# EAGLE library part TEENSY_3.5_BAJA (library Teensy)
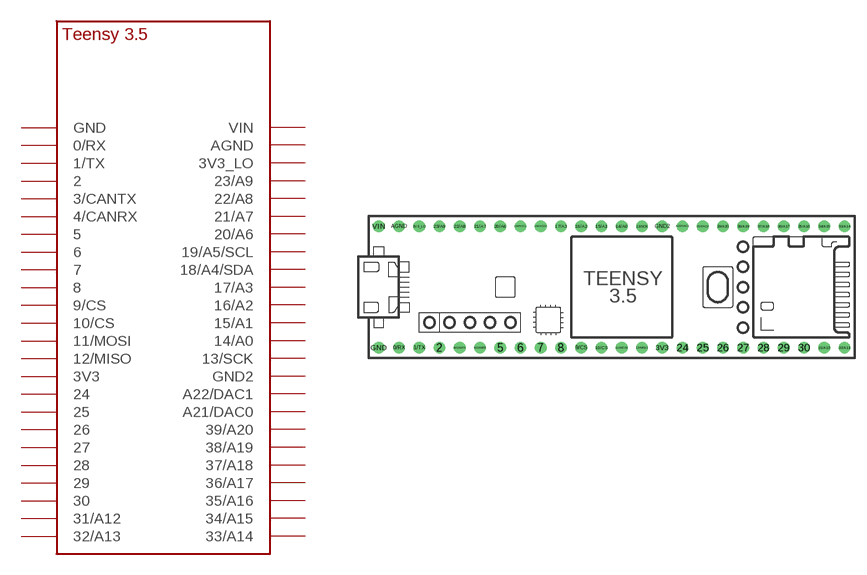
[diagram p1: symbol with the pads of TEENSY_3.5_BAJA; footprint TEENSY_3.5_BAJA]

Designator prefix -

## TEENSY_3.5_BAJA  [TEENSY_3.5_BAJA]
0/RX  0/RX
1/TX  1/TX
2  2
3/CANTX  3/CANTX
3V3  3V3
3V3_LO  3V3_LO
4/CANRX  4/CANRX
5  5
6  6
7  7
8  8
9/CS  9/CS
10/CS  10/CS
11/MOSI  11/MOSI
12/MISO  12/MISO
13/SCK  13/SCK
14/A0  14/A0
15/A1  15/A1
16/A2  16/A2
17/A3  17/A3
18/A4/SDA  18/A4/SDA
19/A5/SCL  19/A5/SCL
20/A6  20/A6
21/A7  21/A7
21/DAC0  A21/DAC0
22/A8  22/A8
23/A9  23/A9
24  24
25  25
26  26
27  27
28  28
29  29
30  30
31/A12  31/A12
32/A13  32/A13
33/A14  33/A14
34/A15  34/A15
35/A16  35/A16
36/A17  36/A17
37/A18  37/A18
38/A19  38/A19
39/A20  39/A20
A22/DAC1  A22/DAC1
AGND  AGND
GND  GND
GND2  GND2
VIN  VIN

## Footprint TEENSY_3.5_BAJA (pad centres in mm)
drill 0.965: 0/RX 3.81,1.27; 1/TX 6.35,1.27; 2 8.89,1.27; 3/CANTX 11.43,1.27; 3V3 36.83,1.27; 3V3_LO 6.35,16.51; 4/CANRX 13.97,1.27; 5 16.51,1.27; 6 19.05,1.27; 7 21.59,1.27; 8 24.13,1.27; 9/CS 26.67,1.27; 10/CS 29.21,1.27; 11/MOSI 31.75,1.27; 12/MISO 34.29,1.27; 13/SCK 34.29,16.51; 14/A0 31.75,16.51; 15/A1 29.21,16.51; 16/A2 26.67,16.51; 17/A3 24.13,16.51; 18/A4/SDA 21.59,16.51; 19/A5/SCL 19.05,16.51; 20/A6 16.51,16.51; 21/A7 13.97,16.51; 21/DAC0 41.91,16.51; 22/A8 11.43,16.51; 23/A9 8.89,16.51; 24 39.37,1.27; 25 41.91,1.27; 26 44.45,1.27; 27 46.99,1.27; 28 49.53,1.27; 29 52.07,1.27; 30 54.61,1.27; 31/A12 57.15,1.27; 32/A13 59.69,1.27; 33/A14 59.69,16.51; 34/A15 57.15,16.51; 35/A16 54.61,16.51; 36/A17 52.07,16.51; 37/A18 49.53,16.51; 38/A19 46.99,16.51; 39/A20 44.45,16.51; A22/DAC1 39.37,16.51; AGND 3.81,16.51; GND 1.27,1.27; GND2 36.83,16.51; VIN 1.27,16.51